# Altium footprint library JST PH Connectors.PcbLib: 59 footprints (part 2 of 4)
Each footprint in its own frame and in the unit in brackets; x right, y up, seen from the top. Pads: shape width x height; smd on the part's side, far side on the other; paste and mask are expansions set on the pad; w line width, h text height; cw(c..) or ccw(c..) is an arc to the next point about the centre after c.
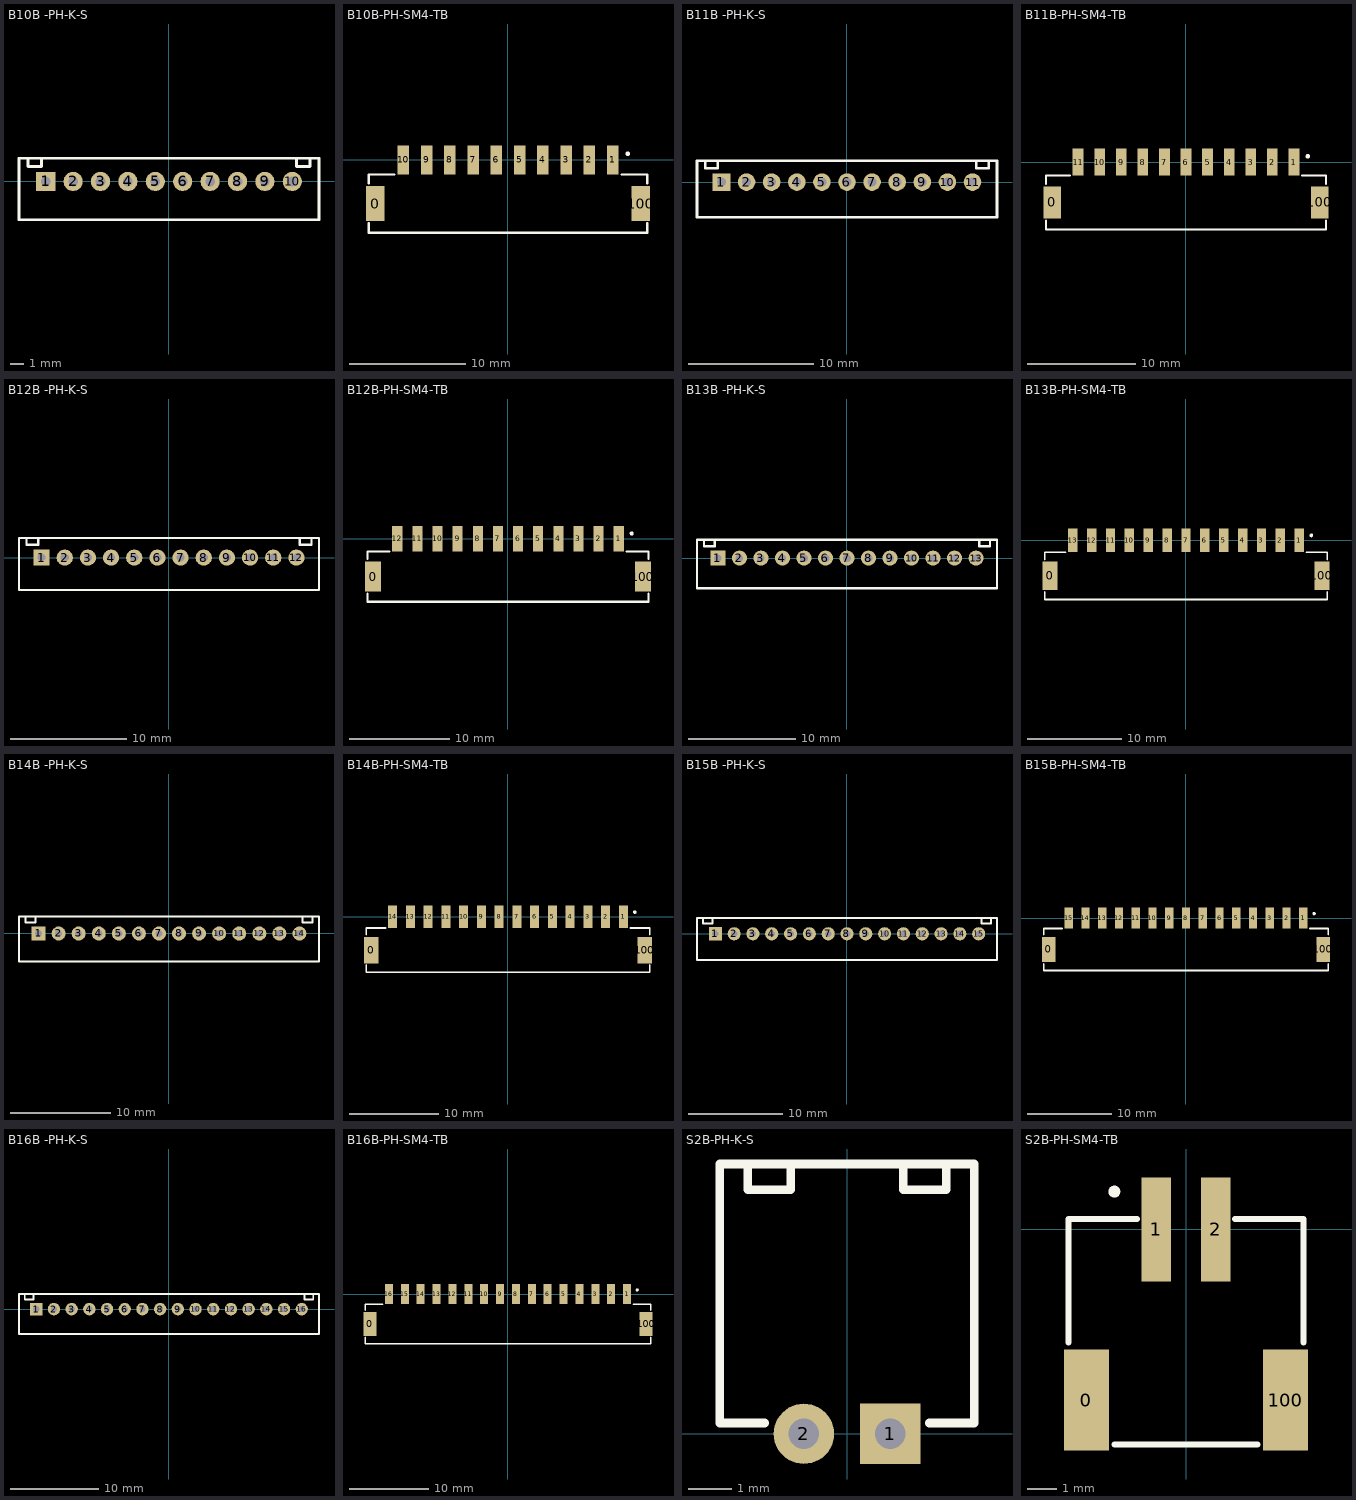
[diagram p1: the footprints below, top view; thin cyan lines are the x and y axes]

## B10B -PH-K-S [mm]
pads (10):
  rect 1.4x1.4 hole 0.7: 1(-9,0)
  round 1.4 hole 0.7: 2(-7,0) 3(-5,0) 4(-3,0) 5(-1,0) 6(1,0) 7(3,0) 8(5,0) 9(7,0) 10(9,0)
Top Overlay:
  lines w0.2: -10.3,1.7 -10.3,1.1 -9.3,1.1 -9.3,1.7 ; 9.3,1.7 9.3,1.1 10.3,1.1 10.3,1.7 ; -10.95,-2.8 10.95,-2.8 10.95,1.7 -10.95,1.7 -10.95,-2.8
3D body "B10B-PH-K-S.STEP": height 6.01, standoff -3.39, extent -10.95,-2.8 10.95,1.7

## B10B-PH-SM4-TB [mm]
pads (12):
  rect 1.6x3 smd: 0(-11.4,-3.75) 100(11.4,-3.75)
  rect 1x2.5 smd: 1(9,0) 2(7,0) 3(5,0) 4(3,0) 5(1,0) 6(-1,0) 7(-3,0) 8(-5,0) 9(-7,0) 10(-9,0)
Top Overlay:
  circle w0.2: c10.286,0.532 r0.1
  lines w0.2: -11.975,-5.437 -11.975,-6.25 11.975,-6.25 11.975,-5.437 ; -11.975,-2.008 -11.975,-1.25 -9.778,-1.25 ; 9.778,-1.25 11.975,-1.25 11.975,-2.008
3D body "B10B-PH-SM4-TB.STEP": height 6.61, standoff 0.01, extent -11.975,-6.25 11.975,0.75

## B11B -PH-K-S [mm]
pads (11):
  rect 1.4x1.4 hole 0.7: 1(-10,0)
  round 1.4 hole 0.7: 2(-8,0) 3(-6,0) 4(-4,0) 5(-2,0) 6(0,0) 7(2,0) 8(4,0) 9(6,0) 10(8,0) 11(10,0)
Top Overlay:
  lines w0.2: -11.3,1.7 -11.3,1.1 -10.3,1.1 -10.3,1.7 ; 10.3,1.7 10.3,1.1 11.3,1.1 11.3,1.7 ; -11.95,-2.8 11.95,-2.8 11.95,1.7 -11.95,1.7 -11.95,-2.8
3D body "B11B-PH-K-S.STEP": height 6.01, standoff -3.39, extent -11.95,-2.8 11.95,1.7

## B11B-PH-SM4-TB [mm]
pads (13):
  rect 1.6x3 smd: 0(-12.4,-3.75) 100(12.4,-3.75)
  rect 1x2.5 smd: 1(10,0) 2(8,0) 3(6,0) 4(4,0) 5(2,0) 6(0,0) 7(-2,0) 8(-4,0) 9(-6,0) 10(-8,0) 11(-10,0)
Top Overlay:
  circle w0.2: c11.286,0.532 r0.1
  lines w0.2: -12.975,-5.437 -12.975,-6.25 12.975,-6.25 12.975,-5.437 ; -12.975,-2.008 -12.975,-1.25 -10.778,-1.25 ; 10.778,-1.25 12.975,-1.25 12.975,-2.008
3D body "B11B-PH-SM4-TB.STEP": height 6.61, standoff 0.01, extent -12.975,-6.25 12.975,0.75

## B12B -PH-K-S [mm]
pads (12):
  rect 1.4x1.4 hole 0.7: 1(-11,0)
  round 1.4 hole 0.7: 2(-9,0) 3(-7,0) 4(-5,0) 5(-3,0) 6(-1,0) 7(1,0) 8(3,0) 9(5,0) 10(7,0) 11(9,0) 12(11,0)
Top Overlay:
  lines w0.2: -12.3,1.7 -12.3,1.1 -11.3,1.1 -11.3,1.7 ; 11.3,1.7 11.3,1.1 12.3,1.1 12.3,1.7 ; -12.95,-2.8 -12.95,1.7 12.95,1.7 12.95,-2.8 -12.95,-2.8
3D body "B12B-PH-K-S.STEP": height 6.01, standoff -3.39, extent -12.95,-2.8 12.95,1.7

## B12B-PH-SM4-TB [mm]
pads (14):
  rect 1.6x3 smd: 0(-13.4,-3.75) 100(13.4,-3.75)
  rect 1x2.5 smd: 1(11,0) 2(9,0) 3(7,0) 4(5,0) 5(3,0) 6(1,0) 7(-1,0) 8(-3,0) 9(-5,0) 10(-7,0) 11(-9,0) 12(-11,0)
Top Overlay:
  circle w0.2: c12.286,0.532 r0.1
  lines w0.2: -13.975,-5.437 -13.975,-6.25 13.975,-6.25 13.975,-5.437 ; -13.975,-2.008 -13.975,-1.25 -11.778,-1.25 ; 11.778,-1.25 13.975,-1.25 13.975,-2.008
3D body "B12B-PH-SM4-TB.STEP": height 6.61, standoff 0.01, extent -13.975,-6.25 13.975,0.75

## B13B -PH-K-S [mm]
pads (13):
  rect 1.4x1.4 hole 0.7: 1(-12,0)
  round 1.4 hole 0.7: 2(-10,0) 3(-8,0) 4(-6,0) 5(-4,0) 6(-2,0) 7(0,0) 8(2,0) 9(4,0) 10(6,0) 11(8,0) 12(10,0) 13(12,0)
Top Overlay:
  lines w0.2: -13.3,1.7 -13.3,1.1 -12.3,1.1 -12.3,1.7 ; 12.3,1.7 12.3,1.1 13.3,1.1 13.3,1.7 ; -13.95,-2.8 -13.95,1.7 13.95,1.7 13.95,-2.8 -13.95,-2.8
3D body "B13B-PH-K-S.STEP": height 6.01, standoff -3.39, extent -13.95,-2.8 13.95,1.7

## B13B-PH-SM4-TB [mm]
pads (15):
  rect 1.6x3 smd: 0(-14.4,-3.75) 100(14.4,-3.75)
  rect 1x2.5 smd: 1(12,0) 2(10,0) 3(8,0) 4(6,0) 5(4,0) 6(2,0) 7(0,0) 8(-2,0) 9(-4,0) 10(-6,0) 11(-8,0) 12(-10,0) 13(-12,0)
Top Overlay:
  circle w0.2: c13.286,0.532 r0.1
  lines w0.2: -14.975,-5.437 -14.975,-6.25 14.975,-6.25 14.975,-5.437 ; -14.975,-2.008 -14.975,-1.25 -12.778,-1.25 ; 12.778,-1.25 14.975,-1.25 14.975,-2.008
3D body "B13B-PH-SM4-TB.STEP": height 6.61, standoff 0.01, extent -14.975,-6.25 14.975,0.75

## B14B -PH-K-S [mm]
pads (14):
  rect 1.4x1.4 hole 0.7: 1(-13,0)
  round 1.4 hole 0.7: 2(-11,0) 3(-9,0) 4(-7,0) 5(-5,0) 6(-3,0) 7(-1,0) 8(1,0) 9(3,0) 10(5,0) 11(7,0) 12(9,0) 13(11,0) 14(13,0)
Top Overlay:
  lines w0.2: -14.3,1.7 -14.3,1.1 -13.3,1.1 -13.3,1.7 ; 13.3,1.7 13.3,1.1 14.3,1.1 14.3,1.7 ; -14.95,-2.8 14.95,-2.8 14.95,1.7 -14.95,1.7 -14.95,-2.8
3D body "B14B-PH-K-S.STEP": height 6.01, standoff -3.39, extent -14.95,-2.8 14.95,1.7

## B14B-PH-SM4-TB [mm]
pads (16):
  rect 1.6x3 smd: 0(-15.4,-3.75) 100(15.4,-3.75)
  rect 1x2.5 smd: 1(13,0) 2(11,0) 3(9,0) 4(7,0) 5(5,0) 6(3,0) 7(1,0) 8(-1,0) 9(-3,0) 10(-5,0) 11(-7,0) 12(-9,0) 13(-11,0) 14(-13,0)
Top Overlay:
  circle w0.2: c14.286,0.532 r0.1
  lines w0.2: -15.975,-5.437 -15.975,-6.25 15.975,-6.25 15.975,-5.437 ; -15.975,-2.008 -15.975,-1.25 -13.778,-1.25 ; 13.778,-1.25 15.975,-1.25 15.975,-2.008
3D body "B14B-PH-SM4-TB.STEP": height 6.61, standoff 0.01, extent -16.102,-6.25 15.848,0.75

## B15B -PH-K-S [mm]
pads (15):
  rect 1.4x1.4 hole 0.7: 1(-14,0)
  round 1.4 hole 0.7: 2(-12,0) 3(-10,0) 4(-8,0) 5(-6,0) 6(-4,0) 7(-2,0) 8(0,0) 9(2,0) 10(4,0) 11(6,0) 12(8,0) 13(10,0) 14(12,0) 15(14,0)
Top Overlay:
  lines w0.2: -15.3,1.7 -15.3,1.1 -14.3,1.1 -14.3,1.7 ; 14.3,1.7 14.3,1.1 15.3,1.1 15.3,1.7 ; -15.95,-2.8 -15.95,1.7 15.95,1.7 15.95,-2.8 -15.95,-2.8
3D body "B15B-PH-K-S.STEP": height 6.01, standoff -3.39, extent -15.95,-2.8 15.95,1.7

## B15B-PH-SM4-TB [mm]
pads (17):
  rect 1.6x3 smd: 0(-16.4,-3.75) 100(16.4,-3.75)
  rect 1x2.5 smd: 1(14,0) 2(12,0) 3(10,0) 4(8,0) 5(6,0) 6(4,0) 7(2,0) 8(0,0) 9(-2,0) 10(-4,0) 11(-6,0) 12(-8,0) 13(-10,0) 14(-12,0) 15(-14,0)
Top Overlay:
  circle w0.2: c15.286,0.532 r0.1
  lines w0.2: -16.975,-5.437 -16.975,-6.25 16.975,-6.25 16.975,-5.437 ; -16.975,-2.008 -16.975,-1.25 -14.778,-1.25 ; 14.778,-1.25 16.975,-1.25 16.975,-2.008
3D body "B15B-PH-SM4-TB.STEP": height 6.61, standoff 0.01, extent -16.975,-6.25 16.975,0.75

## B16B -PH-K-S [mm]
pads (16):
  rect 1.4x1.4 hole 0.7: 1(-15,0)
  round 1.4 hole 0.7: 2(-13,0) 3(-11,0) 4(-9,0) 5(-7,0) 6(-5,0) 7(-3,0) 8(-1,0) 9(1,0) 10(3,0) 11(5,0) 12(7,0) 13(9,0) 14(11,0) 15(13,0) 16(15,0)
Top Overlay:
  lines w0.2: -16.3,1.7 -16.3,1.1 -15.3,1.1 -15.3,1.7 ; 15.3,1.7 15.3,1.1 16.3,1.1 16.3,1.7 ; -16.95,-2.8 -16.95,1.7 16.95,1.7 16.95,-2.8 -16.95,-2.8
3D body "B16B-PH-K-S.STEP": height 6.01, standoff -3.39, extent -16.95,-2.8 16.95,1.7

## B16B-PH-SM4-TB [mm]
pads (18):
  rect 1.6x3 smd: 0(-17.4,-3.75) 100(17.4,-3.75)
  rect 1x2.5 smd: 1(15,0) 2(13,0) 3(11,0) 4(9,0) 5(7,0) 6(5,0) 7(3,0) 8(1,0) 9(-1,0) 10(-3,0) 11(-5,0) 12(-7,0) 13(-9,0) 14(-11,0) 15(-13,0) 16(-15,0)
Top Overlay:
  circle w0.2: c16.286,0.532 r0.1
  lines w0.2: -17.975,-5.437 -17.975,-6.25 17.975,-6.25 17.975,-5.437 ; -17.975,-2.008 -17.975,-1.25 -15.778,-1.25 ; 15.778,-1.25 17.975,-1.25 17.975,-2.008
3D body "B16B-PH-SM4-TB.STEP": height 6.61, standoff 0.01, extent -17.975,-6.25 17.975,0.75

## S2B-PH-K-S [mm]
pads (2):
  rect 1.4x1.4 hole 0.7: 1(1,0)
  round 1.4 hole 0.7: 2(-1,0)
Top Overlay:
  lines w0.2: -2.3,6.25 -2.3,5.65 -1.3,5.65 -1.3,6.25 ; -1.905,0.25 -2.95,0.25 -2.95,6.25 2.95,6.25 2.95,0.25 1.905,0.25 ; 1.3,6.25 1.3,5.65 2.3,5.65 2.3,6.25
3D body "S2B-PH-K-S.STEP": height 4.81, standoff -3.39, extent -2.95,-1.35 2.95,6.25

## S2B-PH-SM4-TB [mm]
height 5.5
pads (4):
  rect 1.5x3.4 smd: 0(-3.35,-5.75) 100(3.35,-5.75)
  rect 1x3.5 smd: 1(-1,0) 2(1,0)
Top Overlay:
  circle w0.2: c-2.413,1.27 r0.1
  lines w0.2: -3.95,-3.81 -3.95,0.35 -1.651,0.35 ; -2.413,-7.25 2.413,-7.25 ; 1.651,0.35 3.95,0.35 3.95,-3.81
3D body "S2B-PH-SM4-TB.STEP": height 5.61, standoff 0.01, extent -3.95,-7.25 3.95,1.35